# Altium integrated library _simulation_math_function.IntLib: 63 symbols
Pins are listed as number, name and electrical type; pins without a type are passive.

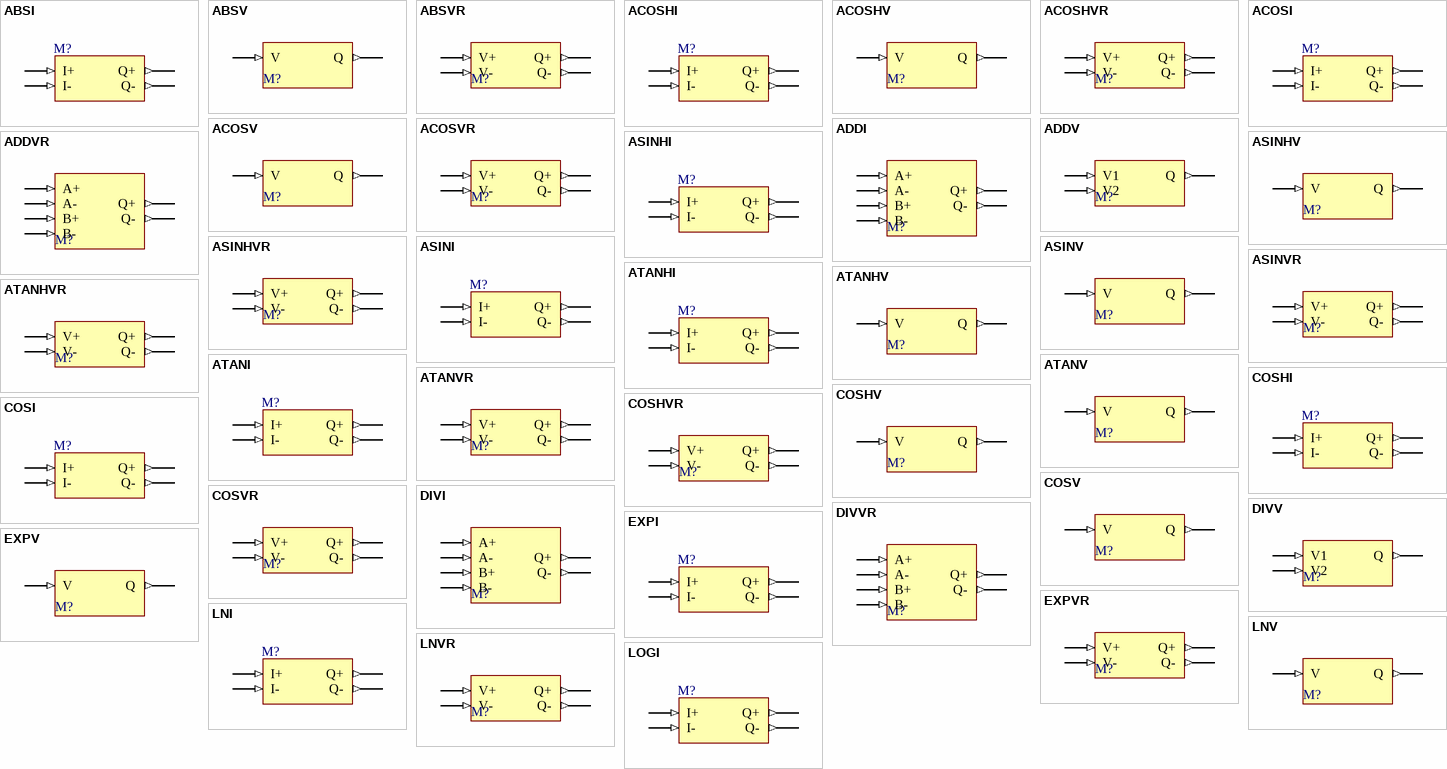
[diagram p0: symbols ABSI to LOGI]

## ABSI
designator M?
Absolute Value of Current; Note: PCB Footprint - Not required; Published: 8-Jun-2000; LatestRevisionDate: 17-Jul-2002; LatestRevisionNote: Re-released for DXP Platform.; PackageReference: Not Applicable; Publisher: Altium Limited
simulation model ABSI (SUBCKT)
pins: 1 I+ (in), 2 I- (in), 3 Q+ (out), 4 Q- (out)

## ABSV
designator M?
Absolute Value of Voltage; Note: PCB Footprint - Not required; Published: 8-Jun-2000; LatestRevisionDate: 17-Jul-2002; LatestRevisionNote: Re-released for DXP Platform.; PackageReference: Not Applicable; Publisher: Altium Limited
simulation model ABSV (SUBCKT)
pins: 1 V (in), 2 Q (out)

## ABSVR
designator M?
Absolute Value of Voltage; Note: PCB Footprint - Not required; Published: 8-Jun-2000; LatestRevisionDate: 17-Jul-2002; LatestRevisionNote: Re-released for DXP Platform.; PackageReference: Not Applicable; Publisher: Altium Limited
simulation model ABSVR (SUBCKT)
pins: 1 V+ (in), 2 V- (in), 3 Q+ (out), 4 Q- (out)

## ACOSHI
designator M?
Hyperbolic Arc Cosine of Current; Note: PCB Footprint - Not required; Published: 8-Jun-2000; LatestRevisionDate: 17-Jul-2002; LatestRevisionNote: Re-released for DXP Platform.; PackageReference: Not Applicable; Publisher: Altium Limited
simulation model ACOSHI (SUBCKT)
pins: 1 I+ (in), 2 I- (in), 3 Q+ (out), 4 Q- (out)

## ACOSHV
designator M?
Hyperbolic Arc Cosine of Voltage; Note: PCB Footprint - Not required; Published: 8-Jun-2000; LatestRevisionDate: 17-Jul-2002; LatestRevisionNote: Re-released for DXP Platform.; PackageReference: Not Applicable; Publisher: Altium Limited
simulation model ACOSHV (SUBCKT)
pins: 1 V (in), 2 Q (out)

## ACOSHVR
designator M?
Hyperbolic Arc Cosine of Voltage; Note: PCB Footprint - Not required; Published: 8-Jun-2000; LatestRevisionDate: 17-Jul-2002; LatestRevisionNote: Re-released for DXP Platform.; PackageReference: Not Applicable; Publisher: Altium Limited
simulation model ACOSHVR (SUBCKT)
pins: 1 V+ (in), 2 V- (in), 3 Q+ (out), 4 Q- (out)

## ACOSI
designator M?
Arc Cosine of Current; Note: PCB Footprint - Not required; Published: 8-Jun-2000; LatestRevisionDate: 17-Jul-2002; LatestRevisionNote: Re-released for DXP Platform.; PackageReference: Not Applicable; Publisher: Altium Limited
simulation model ACOSI (SUBCKT)
pins: 1 I+ (in), 2 I- (in), 3 Q+ (out), 4 Q- (out)

## ACOSV
designator M?
Arc Cosine of Voltage; Note: PCB Footprint - Not required; Published: 8-Jun-2000; LatestRevisionDate: 17-Jul-2002; LatestRevisionNote: Re-released for DXP Platform.; PackageReference: Not Applicable; Publisher: Altium Limited
simulation model ACOSV (SUBCKT)
pins: 1 V (in), 2 Q (out)

## ACOSVR
designator M?
Arc Cosine of Voltage; Note: PCB Footprint - Not required; Published: 8-Jun-2000; LatestRevisionDate: 17-Jul-2002; LatestRevisionNote: Re-released for DXP Platform.; PackageReference: Not Applicable; Publisher: Altium Limited
simulation model ACOSVR (SUBCKT)
pins: 1 V+ (in), 2 V- (in), 3 Q+ (out), 4 Q- (out)

## ADDI
designator M?
Add Currents; Note: PCB Footprint - Not required; Published: 8-Jun-2000; LatestRevisionDate: 17-Jul-2002; LatestRevisionNote: Re-released for DXP Platform.; PackageReference: Not Applicable; Publisher: Altium Limited
simulation model ADDI (SUBCKT)
pins: 1 A+ (in), 2 A- (in), 3 B+ (in), 4 B- (in), 5 Q+ (out), 6 Q- (out)

## ADDV
designator M?
Add Voltages; Note: PCB Footprint - Not required; Published: 8-Jun-2000; LatestRevisionDate: 17-Jul-2002; LatestRevisionNote: Re-released for DXP Platform.; PackageReference: Not Applicable; Publisher: Altium Limited
simulation model ADDV (SUBCKT)
pins: 1 V1 (in), 2 V2 (in), 3 Q (out)

## ADDVR
designator M?
Add Voltages; Note: PCB Footprint - Not required; Published: 8-Jun-2000; LatestRevisionDate: 17-Jul-2002; LatestRevisionNote: Re-released for DXP Platform.; PackageReference: Not Applicable; Publisher: Altium Limited
simulation model ADDVR (SUBCKT)
pins: 1 A+ (in), 2 A- (in), 3 B+ (in), 4 B- (in), 5 Q+ (out), 6 Q- (out)

## ASINHI
designator M?
Hyperbolic Arc Sine of Current; Note: PCB Footprint - Not required; Published: 8-Jun-2000; LatestRevisionDate: 17-Jul-2002; LatestRevisionNote: Re-released for DXP Platform.; PackageReference: Not Applicable; Publisher: Altium Limited
simulation model ASINHI (SUBCKT)
pins: 1 I+ (in), 2 I- (in), 3 Q+ (out), 4 Q- (out)

## ASINHV
designator M?
Hyperbolic Arc Sine of Voltage; Note: PCB Footprint - Not required; Published: 8-Jun-2000; LatestRevisionDate: 17-Jul-2002; LatestRevisionNote: Re-released for DXP Platform.; PackageReference: Not Applicable; Publisher: Altium Limited
simulation model ASINHV (SUBCKT)
pins: 1 V (in), 2 Q (out)

## ASINHVR
designator M?
Hyperbolic Arc Sine of Voltage; Note: PCB Footprint - Not required; Published: 8-Jun-2000; LatestRevisionDate: 17-Jul-2002; LatestRevisionNote: Re-released for DXP Platform.; PackageReference: Not Applicable; Publisher: Altium Limited
simulation model ASINHVR (SUBCKT)
pins: 1 V+ (in), 2 V- (in), 3 Q+ (out), 4 Q- (out)

## ASINI
designator M?
Arc Sine of Current; Note: PCB Footprint - Not required; Published: 8-Jun-2000; LatestRevisionDate: 17-Jul-2002; LatestRevisionNote: Re-released for DXP Platform.; PackageReference: Not Applicable; Publisher: Altium Limited
simulation model ASINI (SUBCKT)
pins: 1 I+ (in), 2 I- (in), 3 Q+ (out), 4 Q- (out)

## ASINV
designator M?
Arc Sine of Voltage; Note: PCB Footprint - Not required; Published: 8-Jun-2000; LatestRevisionDate: 17-Jul-2002; LatestRevisionNote: Re-released for DXP Platform.; PackageReference: Not Applicable; Publisher: Altium Limited
simulation model ASINV (SUBCKT)
pins: 1 V (in), 2 Q (out)

## ASINVR
designator M?
Arc Sine of Voltage; Note: PCB Footprint - Not required; Published: 8-Jun-2000; LatestRevisionDate: 17-Jul-2002; LatestRevisionNote: Re-released for DXP Platform.; PackageReference: Not Applicable; Publisher: Altium Limited
simulation model ASINVR (SUBCKT)
pins: 1 V+ (in), 2 V- (in), 3 Q+ (out), 4 Q- (out)

## ATANHI
designator M?
Hyperbolic Arc Tangent of Current; Note: PCB Footprint - Not required; Published: 8-Jun-2000; LatestRevisionDate: 17-Jul-2002; LatestRevisionNote: Re-released for DXP Platform.; PackageReference: Not Applicable; Publisher: Altium Limited
simulation model ATANHI (SUBCKT)
pins: 1 I+ (in), 2 I- (in), 3 Q+ (out), 4 Q- (out)

## ATANHV
designator M?
Hyperbolic Arc Tangent of Voltage; Note: PCB Footprint - Not required; Published: 8-Jun-2000; LatestRevisionDate: 17-Jul-2002; LatestRevisionNote: Re-released for DXP Platform.; PackageReference: Not Applicable; Publisher: Altium Limited
simulation model ATANHV (SUBCKT)
pins: 1 V (in), 2 Q (out)

## ATANHVR
designator M?
Hyperbolic Arc Tangent of Voltage; Note: PCB Footprint - Not required; Published: 8-Jun-2000; LatestRevisionDate: 17-Jul-2002; LatestRevisionNote: Re-released for DXP Platform.; PackageReference: Not Applicable; Publisher: Altium Limited
simulation model ATANHVR (SUBCKT)
pins: 1 V+ (in), 2 V- (in), 3 Q+ (out), 4 Q- (out)

## ATANI
designator M?
Arc Tangent of Current; Note: PCB Footprint - Not required; Published: 8-Jun-2000; LatestRevisionDate: 17-Jul-2002; LatestRevisionNote: Re-released for DXP Platform.; PackageReference: Not Applicable; Publisher: Altium Limited
simulation model ATANI (SUBCKT)
pins: 1 I+ (in), 2 I- (in), 3 Q+ (out), 4 Q- (out)

## ATANV
designator M?
Arc Tangent of Voltage; Note: PCB Footprint - Not required; Published: 8-Jun-2000; LatestRevisionDate: 17-Jul-2002; LatestRevisionNote: Re-released for DXP Platform.; PackageReference: Not Applicable; Publisher: Altium Limited
simulation model ATANV (SUBCKT)
pins: 1 V (in), 2 Q (out)

## ATANVR
designator M?
Arc Tangent of Voltage; Note: PCB Footprint - Not required; Published: 8-Jun-2000; LatestRevisionDate: 17-Jul-2002; LatestRevisionNote: Re-released for DXP Platform.; PackageReference: Not Applicable; Publisher: Altium Limited
simulation model ATANVR (SUBCKT)
pins: 1 V+ (in), 2 V- (in), 3 Q+ (out), 4 Q- (out)

## COSHI
designator M?
Hyperbolic Cosine of Current; Note: PCB Footprint - Not required; Published: 8-Jun-2000; LatestRevisionDate: 17-Jul-2002; LatestRevisionNote: Re-released for DXP Platform.; PackageReference: Not Applicable; Publisher: Altium Limited
simulation model COSHI (SUBCKT)
pins: 1 I+ (in), 2 I- (in), 3 Q+ (out), 4 Q- (out)

## COSHV
designator M?
Hyperbolic Cosine of Voltage; Note: PCB Footprint - Not required; Published: 8-Jun-2000; LatestRevisionDate: 17-Jul-2002; LatestRevisionNote: Re-released for DXP Platform.; PackageReference: Not Applicable; Publisher: Altium Limited
simulation model COSHV (SUBCKT)
pins: 1 V (in), 2 Q (out)

## COSHVR
designator M?
Hyperbolic Cosine of Voltage; Note: PCB Footprint - Not required; Published: 8-Jun-2000; LatestRevisionDate: 17-Jul-2002; LatestRevisionNote: Re-released for DXP Platform.; PackageReference: Not Applicable; Publisher: Altium Limited
simulation model COSHVR (SUBCKT)
pins: 1 V+ (in), 2 V- (in), 3 Q+ (out), 4 Q- (out)

## COSI
designator M?
Cosine of Current; Note: PCB Footprint - Not required; Published: 8-Jun-2000; LatestRevisionDate: 17-Jul-2002; LatestRevisionNote: Re-released for DXP Platform.; PackageReference: Not Applicable; Publisher: Altium Limited
simulation model COSI (SUBCKT)
pins: 1 I+ (in), 2 I- (in), 3 Q+ (out), 4 Q- (out)

## COSV
designator M?
Cosine of Voltage; Note: PCB Footprint - Not required; Published: 8-Jun-2000; LatestRevisionDate: 17-Jul-2002; LatestRevisionNote: Re-released for DXP Platform.; PackageReference: Not Applicable; Publisher: Altium Limited
simulation model COSV (SUBCKT)
pins: 1 V (in), 2 Q (out)

## COSVR
designator M?
Cosine of Voltage; Note: PCB Footprint - Not required; Published: 8-Jun-2000; LatestRevisionDate: 17-Jul-2002; LatestRevisionNote: Re-released for DXP Platform.; PackageReference: Not Applicable; Publisher: Altium Limited
simulation model COSVR (SUBCKT)
pins: 1 V+ (in), 2 V- (in), 3 Q+ (out), 4 Q- (out)

## DIVI
designator M?
Divide Currents; Note: PCB Footprint - Not required; Published: 8-Jun-2000; LatestRevisionDate: 17-Jul-2002; LatestRevisionNote: Re-released for DXP Platform.; PackageReference: Not Applicable; Publisher: Altium Limited
simulation model DIVI (SUBCKT)
pins: 1 A+ (in), 2 A- (in), 3 B+ (in), 4 B- (in), 5 Q+ (out), 6 Q- (out)

## DIVV
designator M?
Divide Voltages; Note: PCB Footprint - Not required; Published: 8-Jun-2000; LatestRevisionDate: 17-Jul-2002; LatestRevisionNote: Re-released for DXP Platform.; PackageReference: Not Applicable; Publisher: Altium Limited
simulation model DIVV (SUBCKT)
pins: 1 V1 (in), 2 V2 (in), 3 Q (out)

## DIVVR
designator M?
Divide Voltages; Note: PCB Footprint - Not required; Published: 8-Jun-2000; LatestRevisionDate: 17-Jul-2002; LatestRevisionNote: Re-released for DXP Platform.; PackageReference: Not Applicable; Publisher: Altium Limited
simulation model DIVVR (SUBCKT)
pins: 1 A+ (in), 2 A- (in), 3 B+ (in), 4 B- (in), 5 Q+ (out), 6 Q- (out)

## EXPI
designator M?
Exponential of Current; Note: PCB Footprint - Not required; Published: 8-Jun-2000; LatestRevisionDate: 17-Jul-2002; LatestRevisionNote: Re-released for DXP Platform.; PackageReference: Not Applicable; Publisher: Altium Limited
simulation model EXPI (SUBCKT)
pins: 1 I+ (in), 2 I- (in), 3 Q+ (out), 4 Q- (out)

## EXPV
designator M?
Exponential of Voltage; Note: PCB Footprint - Not required; Published: 8-Jun-2000; LatestRevisionDate: 17-Jul-2002; LatestRevisionNote: Re-released for DXP Platform.; PackageReference: Not Applicable; Publisher: Altium Limited
simulation model EXPV (SUBCKT)
pins: 1 V (in), 2 Q (out)

## EXPVR
designator M?
Exponential of Voltage; Note: PCB Footprint - Not required; Published: 8-Jun-2000; LatestRevisionDate: 17-Jul-2002; LatestRevisionNote: Re-released for DXP Platform.; PackageReference: Not Applicable; Publisher: Altium Limited
simulation model EXPVR (SUBCKT)
pins: 1 V+ (in), 2 V- (in), 3 Q+ (out), 4 Q- (out)

## LNI
designator M?
Natural Logarithm of Current; Note: PCB Footprint - Not required; Published: 8-Jun-2000; LatestRevisionDate: 17-Jul-2002; LatestRevisionNote: Re-released for DXP Platform.; PackageReference: Not Applicable; Publisher: Altium Limited
simulation model LNI (SUBCKT)
pins: 1 I+ (in), 2 I- (in), 3 Q+ (out), 4 Q- (out)

## LNV
designator M?
Natural Logarithm of Voltage; Note: PCB Footprint - Not required; Published: 8-Jun-2000; LatestRevisionDate: 17-Jul-2002; LatestRevisionNote: Re-released for DXP Platform.; PackageReference: Not Applicable; Publisher: Altium Limited
simulation model LNV (SUBCKT)
pins: 1 V (in), 2 Q (out)

## LNVR
designator M?
Natural Logarithm of Voltage; Note: PCB Footprint - Not required; Published: 8-Jun-2000; LatestRevisionDate: 17-Jul-2002; LatestRevisionNote: Re-released for DXP Platform.; PackageReference: Not Applicable; Publisher: Altium Limited
simulation model LNVR (SUBCKT)
pins: 1 V+ (in), 2 V- (in), 3 Q+ (out), 4 Q- (out)

## LOGI
designator M?
Logarithm of Current; Note: PCB Footprint - Not required; Published: 8-Jun-2000; LatestRevisionDate: 17-Jul-2002; LatestRevisionNote: Re-released for DXP Platform.; PackageReference: Not Applicable; Publisher: Altium Limited
simulation model LOGI (SUBCKT)
pins: 1 I+ (in), 2 I- (in), 3 Q+ (out), 4 Q- (out)

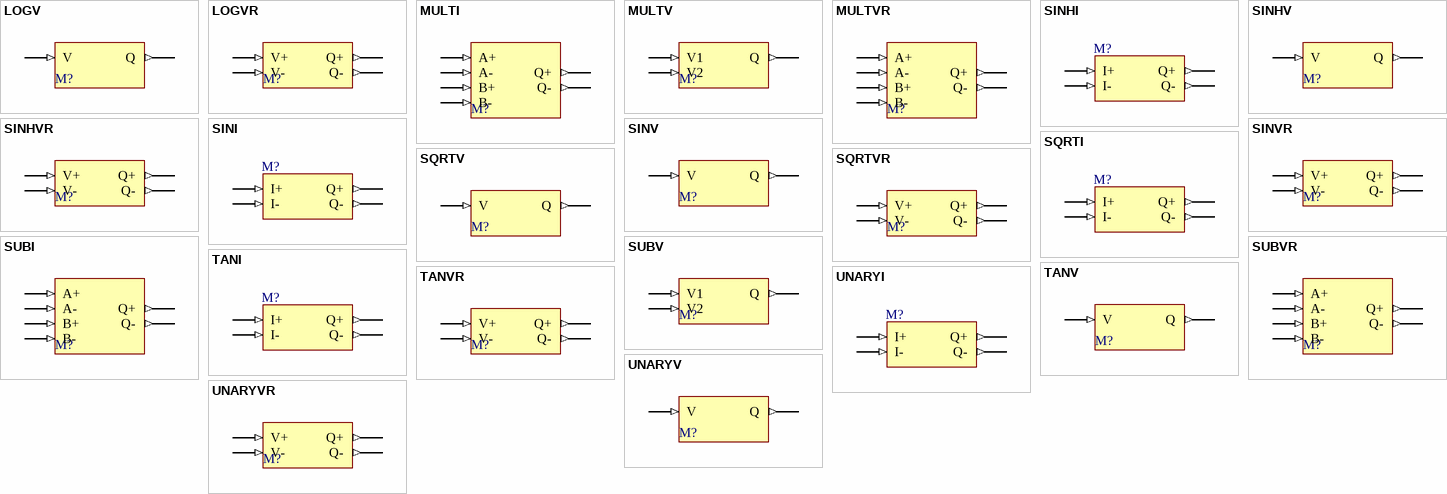
[diagram p1: symbols LOGV to UNARYVR]

## LOGV
designator M?
Logarithm of Voltage; Note: PCB Footprint - Not required; Published: 8-Jun-2000; LatestRevisionDate: 17-Jul-2002; LatestRevisionNote: Re-released for DXP Platform.; PackageReference: Not Applicable; Publisher: Altium Limited
simulation model LOGV (SUBCKT)
pins: 1 V (in), 2 Q (out)

## LOGVR
designator M?
Logarithm of Voltage; Note: PCB Footprint - Not required; Published: 8-Jun-2000; LatestRevisionDate: 17-Jul-2002; LatestRevisionNote: Re-released for DXP Platform.; PackageReference: Not Applicable; Publisher: Altium Limited
simulation model LOGVR (SUBCKT)
pins: 1 V+ (in), 2 V- (in), 3 Q+ (out), 4 Q- (out)

## MULTI
designator M?
Multiply Currents; Note: PCB Footprint - Not required; Published: 8-Jun-2000; LatestRevisionDate: 17-Jul-2002; LatestRevisionNote: Re-released for DXP Platform.; PackageReference: Not Applicable; Publisher: Altium Limited
simulation model MULTI (SUBCKT)
pins: 1 A+ (in), 2 A- (in), 3 B+ (in), 4 B- (in), 5 Q+ (out), 6 Q- (out)

## MULTV
designator M?
Multiply Voltages; Note: PCB Footprint - Not required; Published: 8-Jun-2000; LatestRevisionDate: 17-Jul-2002; LatestRevisionNote: Re-released for DXP Platform.; PackageReference: Not Applicable; Publisher: Altium Limited
simulation model MULTV (SUBCKT)
pins: 1 V1 (in), 2 V2 (in), 3 Q (out)

## MULTVR
designator M?
Multiply Voltages; Note: PCB Footprint - Not required; Published: 8-Jun-2000; LatestRevisionDate: 17-Jul-2002; LatestRevisionNote: Re-released for DXP Platform.; PackageReference: Not Applicable; Publisher: Altium Limited
simulation model MULTVR (SUBCKT)
pins: 1 A+ (in), 2 A- (in), 3 B+ (in), 4 B- (in), 5 Q+ (out), 6 Q- (out)

## SINHI
designator M?
Hyperbolic Sine of Current; Note: PCB Footprint - Not required; Published: 8-Jun-2000; LatestRevisionDate: 17-Jul-2002; LatestRevisionNote: Re-released for DXP Platform.; PackageReference: Not Applicable; Publisher: Altium Limited
simulation model SINHI (SUBCKT)
pins: 1 I+ (in), 2 I- (in), 3 Q+ (out), 4 Q- (out)

## SINHV
designator M?
Hyperbolic Sine of Voltage; Note: PCB Footprint - Not required; Published: 8-Jun-2000; LatestRevisionDate: 17-Jul-2002; LatestRevisionNote: Re-released for DXP Platform.; PackageReference: Not Applicable; Publisher: Altium Limited
simulation model SINHV (SUBCKT)
pins: 1 V (in), 2 Q (out)

## SINHVR
designator M?
Hyperbolic Sine of Voltage; Note: PCB Footprint - Not required; Published: 8-Jun-2000; LatestRevisionDate: 17-Jul-2002; LatestRevisionNote: Re-released for DXP Platform.; PackageReference: Not Applicable; Publisher: Altium Limited
simulation model SINHVR (SUBCKT)
pins: 1 V+ (in), 2 V- (in), 3 Q+ (out), 4 Q- (out)

## SINI
designator M?
Sine of Current; Note: PCB Footprint - Not required; Published: 8-Jun-2000; LatestRevisionDate: 17-Jul-2002; LatestRevisionNote: Re-released for DXP Platform.; PackageReference: Not Applicable; Publisher: Altium Limited
simulation model SINI (SUBCKT)
pins: 1 I+ (in), 2 I- (in), 3 Q+ (out), 4 Q- (out)

## SINV
designator M?
Sine of Voltage; Note: PCB Footprint - Not required; Published: 8-Jun-2000; LatestRevisionDate: 17-Jul-2002; LatestRevisionNote: Re-released for DXP Platform.; PackageReference: Not Applicable; Publisher: Altium Limited
simulation model SINV (SUBCKT)
pins: 1 V (in), 2 Q (out)

## SINVR
designator M?
Sine of Voltage; Note: PCB Footprint - Not required; Published: 8-Jun-2000; LatestRevisionDate: 17-Jul-2002; LatestRevisionNote: Re-released for DXP Platform.; PackageReference: Not Applicable; Publisher: Altium Limited
simulation model SINVR (SUBCKT)
pins: 1 V+ (in), 2 V- (in), 3 Q+ (out), 4 Q- (out)

## SQRTI
designator M?
Square Root of Current; Note: PCB Footprint - Not required; Published: 8-Jun-2000; LatestRevisionDate: 17-Jul-2002; LatestRevisionNote: Re-released for DXP Platform.; PackageReference: Not Applicable; Publisher: Altium Limited
simulation model SQRTI (SUBCKT)
pins: 1 I+ (in), 2 I- (in), 3 Q+ (out), 4 Q- (out)

## SQRTV
designator M?
Square Root of Voltage; Note: PCB Footprint - Not required; Published: 8-Jun-2000; LatestRevisionDate: 17-Jul-2002; LatestRevisionNote: Re-released for DXP Platform.; PackageReference: Not Applicable; Publisher: Altium Limited
simulation model SQRTV (SUBCKT)
pins: 1 V (in), 2 Q (out)

## SQRTVR
designator M?
Square Root of Voltage; Note: PCB Footprint - Not required; Published: 8-Jun-2000; LatestRevisionDate: 21-May-2003; LatestRevisionNote: Input pin names changed.; PackageReference: Not Applicable; Publisher: Altium Limited
simulation model SQRTVR (SUBCKT)
pins: 1 V+ (in), 2 V- (in), 3 Q+ (out), 4 Q- (out)

## SUBI
designator M?
Subtract Currents; Note: PCB Footprint - Not required; Published: 8-Jun-2000; LatestRevisionDate: 17-Jul-2002; LatestRevisionNote: Re-released for DXP Platform.; PackageReference: Not Applicable; Publisher: Altium Limited
simulation model SUBI (SUBCKT)
pins: 1 A+ (in), 2 A- (in), 3 B+ (in), 4 B- (in), 5 Q+ (out), 6 Q- (out)

## SUBV
designator M?
Subtract Voltages; Note: PCB Footprint - Not required; Published: 8-Jun-2000; LatestRevisionDate: 17-Jul-2002; LatestRevisionNote: Re-released for DXP Platform.; PackageReference: Not Applicable; Publisher: Altium Limited
simulation model SUBV (SUBCKT)
pins: 1 V1 (in), 2 V2 (in), 3 Q (out)

## SUBVR
designator M?
Subtract Voltages; Note: PCB Footprint - Not required; Published: 8-Jun-2000; LatestRevisionDate: 17-Jul-2002; LatestRevisionNote: Re-released for DXP Platform.; PackageReference: Not Applicable; Publisher: Altium Limited
simulation model SUBVR (SUBCKT)
pins: 1 A+ (in), 2 A- (in), 3 B+ (in), 4 B- (in), 5 Q+ (out), 6 Q- (out)

## TANI
designator M?
Tangent of Current; Note: PCB Footprint - Not required; Published: 8-Jun-2000; LatestRevisionDate: 17-Jul-2002; LatestRevisionNote: Re-released for DXP Platform.; PackageReference: Not Applicable; Publisher: Altium Limited
simulation model TANI (SUBCKT)
pins: 1 I+ (in), 2 I- (in), 3 Q+ (out), 4 Q- (out)

## TANV
designator M?
Tangent of Voltage; Note: PCB Footprint - Not required; Published: 8-Jun-2000; LatestRevisionDate: 17-Jul-2002; LatestRevisionNote: Re-released for DXP Platform.; PackageReference: Not Applicable; Publisher: Altium Limited
simulation model TANV (SUBCKT)
pins: 1 V (in), 2 Q (out)

## TANVR
designator M?
Tangent of Voltage; Note: PCB Footprint - Not required; Published: 8-Jun-2000; LatestRevisionDate: 17-Jul-2002; LatestRevisionNote: Re-released for DXP Platform.; PackageReference: Not Applicable; Publisher: Altium Limited
simulation model TANVR (SUBCKT)
pins: 1 V+ (in), 2 V- (in), 3 Q+ (out), 4 Q- (out)

## UNARYI
designator M?
Unary minus of Current; Note: PCB Footprint - Not required; Published: 8-Jun-2000; LatestRevisionDate: 17-Jul-2002; LatestRevisionNote: Re-released for DXP Platform.; PackageReference: Not Applicable; Publisher: Altium Limited
simulation model UNARYI (SUBCKT)
pins: 1 I+ (in), 2 I- (in), 3 Q+ (out), 4 Q- (out)

## UNARYV
designator M?
Unary minus of Voltage; Note: PCB Footprint - Not required; Published: 8-Jun-2000; LatestRevisionDate: 17-Jul-2002; LatestRevisionNote: Re-released for DXP Platform.; PackageReference: Not Applicable; Publisher: Altium Limited
simulation model UNARYV (SUBCKT)
pins: 1 V (in), 2 Q (out)

## UNARYVR
designator M?
Unary minus of Voltage; Note: PCB Footprint - Not required; Published: 8-Jun-2000; LatestRevisionDate: 17-Jul-2002; LatestRevisionNote: Re-released for DXP Platform.; PackageReference: Not Applicable; Publisher: Altium Limited
simulation model UNARYVR (SUBCKT)
pins: 1 V+ (in), 2 V- (in), 3 Q+ (out), 4 Q- (out)